# Altium footprint library PDIP6.PcbLib: 1 footprints
Each footprint in its own frame and in the unit in brackets; x right, y up, seen from the top. Pads: shape width x height; smd on the part's side, far side on the other; paste and mask are expansions set on the pad; w line width, h text height; cw(c..) or ccw(c..) is an arc to the next point about the centre after c.
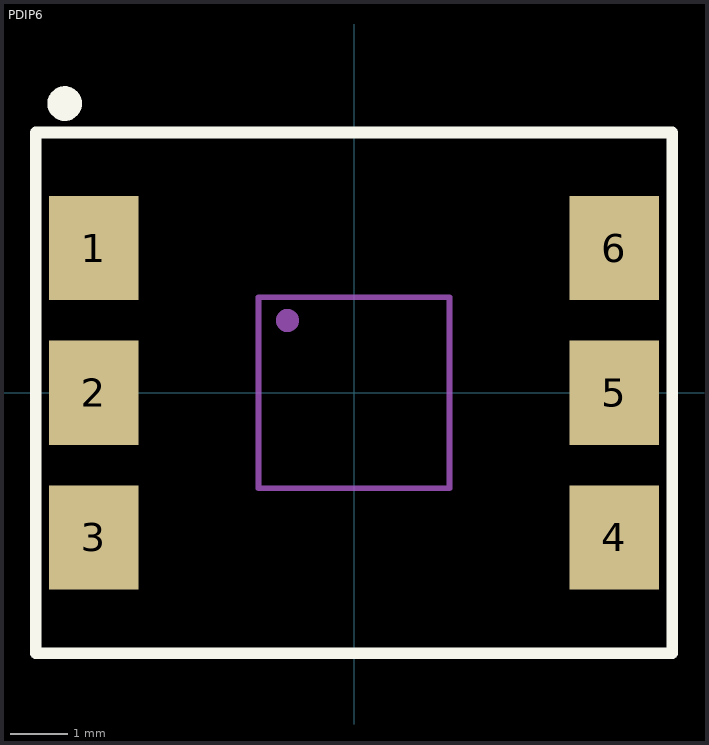
[diagram p0: the footprint, top view; thin cyan lines are the x and y axes]

## PDIP6 [mm]
pads (6):
  rect 1.55x1.8 smd paste+0 mask+0.05: 1(-4.5,2.5) 2(-4.5,0) 3(-4.5,-2.5) 4(4.5,-2.5) 5(4.5,0) 6(4.5,2.5)
Top Overlay:
  circle w0.3: c-5,5 r0.15
  lines w0.2: -5.5,-4.5 5.5,-4.5 5.5,4.5 -5.5,4.5 -5.5,-4.5
Top Assembly:
  circle w0.2: c-1.15,1.25 r0.1
  lines w0.1: -1.65,-1.65 1.65,-1.65 1.65,1.65 -1.65,1.65 -1.65,-1.65
  text "'.Designator'" at -0.5,-0.375 h0.7
3D body: height 4.8, standoff 0, extent -4.5,-4 4.5,4